# Altium integrated library WL-SFSW.IntLib: 1 symbol
Pins are listed as number, name and electrical type; pins without a type are passive.

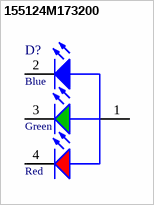
[diagram p0: symbol 155124M173200]

## 155124M173200
designator D?
WL-SFSW SMD Full-color Side view Waterclear; Part Number: 155124M173200; Viewing Angle: 120°; Emitting Color: Red & Green & Blue; Published Date: Jan 2017; Publisher: Wurth Elektronik; ComponentLink1Description: Manufacturer; ComponentLink1URL: http://www.we-online.de; ComponentLink2Description: Datasheet; ComponentLink2URL: http://katalog.we-online.de/led/datasheet/155124M173200.pdf; Size: 1204
footprint WL-SFSW_1204 (SMD Full-color Side view Waterclear, body 3.2x1)
pins: 1 A, 2 K, 3 K, 4 K
text: Blue; Green; Red